# Altium integrated library CFR16J100K.IntLib: 1 symbol
Pins are listed as number, name and electrical type; pins without a type are passive.

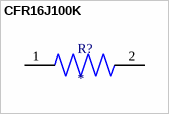
[diagram p0: symbol CFR16J100K]

## CFR16J100K
designator R?
100 kOhms Â±5% 0.25W, 1/4W Through Hole Resistor Axial - Carbon Film; MF: TE Connectivity Passive Product; MP: CFR16J100K; Price: None; Value: *; Purchase-URL: https://pricing.snapeda.com/search/part/CFR16J100K/?ref=eda; Check_prices: https://www.snapeda.com/parts/CFR16J100K/TE+Connectivity/view-part/?ref=eda; Package: None; Availability: In Stock; SnapEDA_Link: https://www.snapeda.com/parts/CFR16J100K/TE+Connectivity/view-part/?ref=snap
footprint RESAD700W45L350D185
pins: 1, 2